# EAGLE library part COUPLER1 (library dtoy-RF)
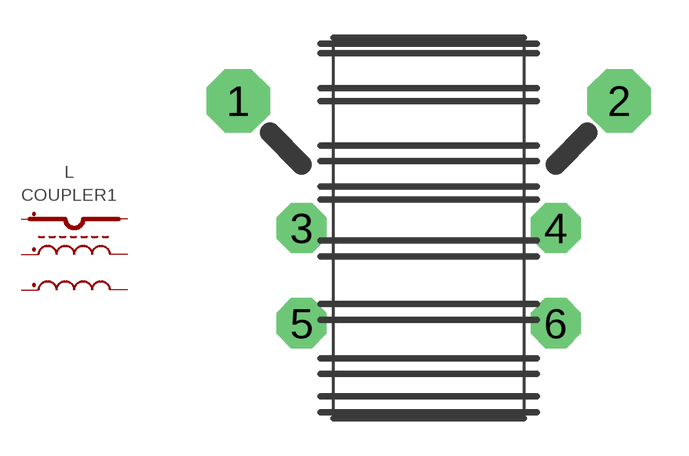
[diagram p3: symbol with the pads of COUPLER1; footprint COUPLER1]

Designator prefix L

## COUPLER1  [COUPLER1]
1  1  pas
2  2  pas
3  3  pas
4  4  pas
5  5  pas
6  6  pas

## Footprint COUPLER1 (pad centres in mm)
drill 1.016 pad 2.54 octagon: 1 -7.62,5.08; 2 7.62,5.08
drill 1.016 pad 2.007 octagon: 3 -5.08,0; 4 5.08,0; 5 -5.08,-3.81; 6 5.08,-3.81